# Altium integrated library Vibration sensors.IntLib: 1 symbol
Pins are listed as number, name and electrical type; pins without a type are passive.

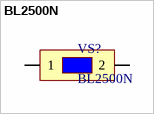
[diagram p0: symbol BL2500N]

## BL2500N
designator VS?
Vibration sensor
footprint BL2500N
pins: 1, 2